# Altium footprint library 171857-0003.PcbLib: 1 footprints
Each footprint in its own frame and in the unit in brackets; x right, y up, seen from the top. Pads: shape width x height; smd on the part's side, far side on the other; paste and mask are expansions set on the pad; w line width, h text height; cw(c..) or ccw(c..) is an arc to the next point about the centre after c.
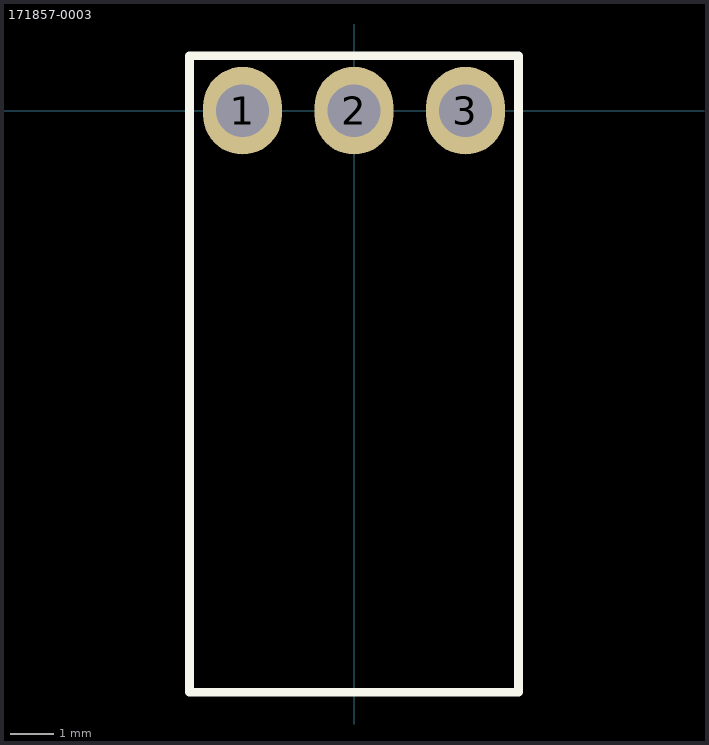
[diagram p0: the footprint, top view; thin cyan lines are the x and y axes]

## 171857-0003 [mm]
pads (3):
  oval 1.8x2 hole 1.2: 1(-2.54,0) 2(0,0) 3(2.54,0)
Top Overlay:
  lines w0.2: -3.75,-13.25 -3.75,1.25 3.75,1.25 3.75,-13.25 -3.75,-13.25
3D body: height 6.38, standoff -2.51, extent -3.734,-13.28 3.734,0.386